# Altium schematic symbol library General.SchLib: 17 symbols
Pins are listed as number, name and electrical type; pins without a type are passive.

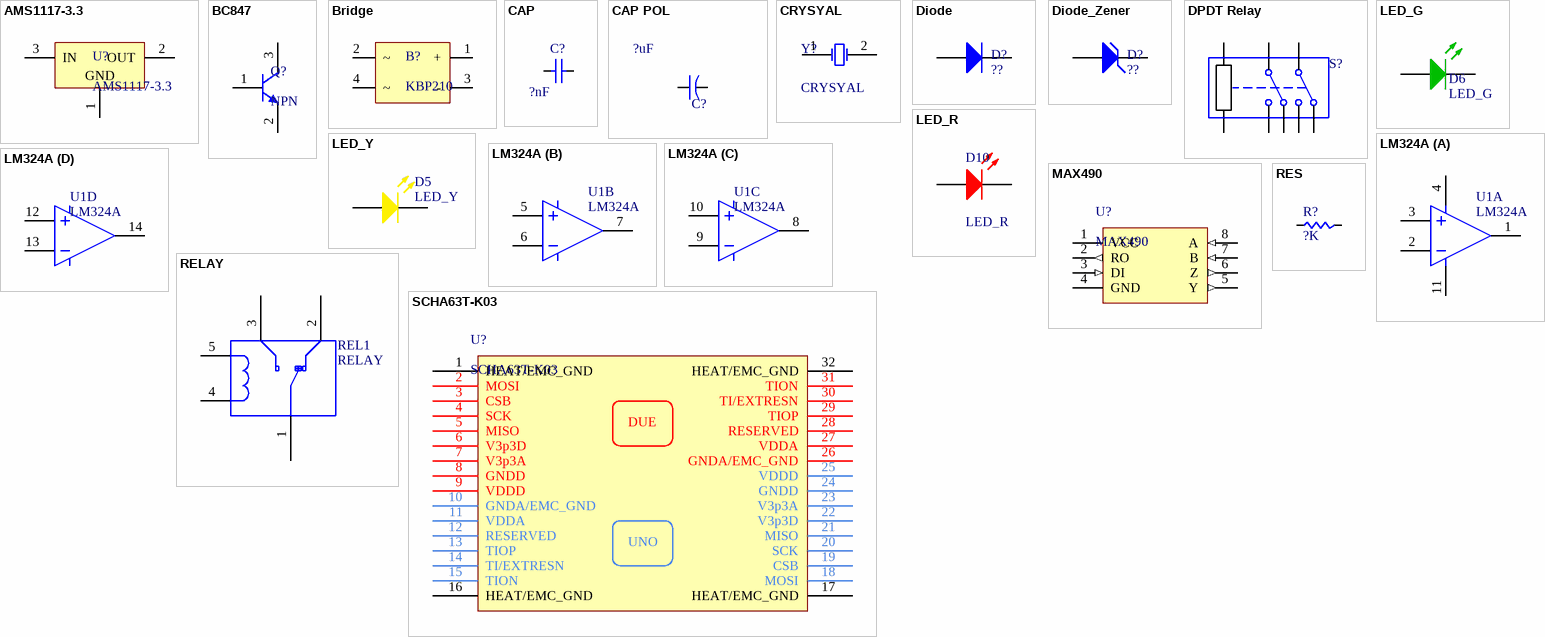
[diagram p0: symbols AMS1117-3.3 to SCHA63T-K03]

## AMS1117-3.3
designator U?
footprint SOT223
pins: 1 GND (power), 2 OUT (power), 3 IN (power)

## BC847
designator Q?, comment NPN
footprint SOT23
pins: 1 B, 2 E, 3 C

## Bridge
designator B?, comment KBP210
footprint DB107
footprint KBP206
footprint MB6S
pins: 1 +, 2 ~, 3 -, 4 ~

## CAP
designator C?, comment ?nF
footprint Ceramic_2.5mm
footprint MKT_9.5mm
footprint MKT_22.5mm
footprint MKT_5MM
footprint MKT_5MM-sleep
footprint MKT_7.5mm
footprint MKT_7.5mm_small
footprint MKT_10.5mm
footprint MKT_15mm
footprint MKT_20.5mm
footprint MKT_23.5mm
footprint POLi_10mm
footprint POLI_17MM
footprint poli_7.5mm
footprint POLI_20MM
footprint C1206
footprint Model Name (Footprint not found)
footprint C0805
pins: 1, 2

## CAP POL
designator C?, comment ?uF
footprint elec_10.5mm_5mm
footprint elec_10.5mm_5mm_R
footprint Elec_4mm_5mm
footprint Elec_5mm_2mm
footprint Elec_6.5MM_2MM
footprint Elec_6.5MM_2MM_R
footprint Elec_8.5MM_3.5MM
footprint Elec_12.5mm_5mm
footprint Elec_16mm_7.5mm
footprint Elec_17mm_7.5mm
footprint Elec_22.5mm_10.5mm
footprint Elec_26mm_10.5mm
footprint Elec_26mm_12mm
footprint Elec_30mm_10.5mm
pins: 1, 2
1 alternate drawing of the same symbol

## CRYSYAL
designator Y?
Crystal Oscillator; Published: 8-Jun-2000; LatestRevisionDate: 17-Jul-2002; LatestRevisionNote: Re-released for DXP Platform.; PackageReference: R38; Publisher: Altium Limited; PackageDescription: Crystal, Thru-Hole; 2 Leads; Body 3.1 x 8.2 mm (Dia.xH)
footprint XTAL
pins: 1 OSC1, 2 OSC2

## Diode
designator D?, comment ??
footprint DO-214
pins: 1 A, 2 K

## Diode_Zener
designator D?, comment ??
footprint DIODE
pins: 1 A, 2 K

## DPDT Relay
designator S?, comment Double-Pole, Double-Throw Relay  (value not drawn)
L_C: 1u; R_C: 100; RON: 1; ROFF: 1e12; ION: 1m; IOFF: 0; SimulationGenericComponent: True
simulation model DPDT_RELAY
pins: 1, 2, 3, 4, 5, 6, 7, 8

## LED_G
designator D6
Typical RED, GREEN, YELLOW, AMBER GaAs LED; Published: 8-Jun-2000; LatestRevisionDate: 17-Jul-2002; LatestRevisionNote: Re-released for DXP Platform.; PackageVersion: Feb-2002; PackageReference: 3.2X1.6X1.1; Publisher: Altium Limited; PackageDescription: SM LED; 2 Flat Leads
footprint LED5mm
pins: 1 A, 2 K

## LED_R
designator D10
Typical INFRARED GaAs LED; Published: 8-Jun-2000; LatestRevisionDate: 08-Jul-2005; LatestRevisionNote: Mech Layer 1 removed.; PackageReference: LED-0; Publisher: Altium Limited; PackageDescription: LED; 2 Leads
footprint LED5mm
pins: 1 A, 2 K

## LED_Y
designator D5
Typical BLUE SiC LED; Published: 8-Jun-2000; LatestRevisionDate: 17-Dec-2003; LatestRevisionNote: PCB Footprint replaced.; DatasheetVersion: 16-Apr-2002; PackageVersion: 16-Apr-2002; PackageReference: 3.5X2.8X1.9; Publisher: Altium Limited; PackageDescription: SM LED; 2 C-Bend Leads; Body 3.5 x 2.8 x 1.9 mm, inc leads (LxWxH typ)
footprint LED5mm
pins: 1 A, 2 K

## LM324A
designator U1
footprint SOIC-14
part A pins: 1 OUT, 2, 3, 4 VCC, 11 GND
part B pins: 5 IN, 6 IN, 7 OUT
part C pins: 8 OUT, 9 IN, 10 IN
part D pins: 12 IN, 13 IN, 14 OUT

## MAX490
designator U?
footprint SOP8
pins: 1 VCC (power), 2 RO (out), 3 DI (in), 4 GND (power), 5 Y (out), 6 Z (out), 7 B (in), 8 A (in)

## RELAY
designator REL1
footprint RELAY-MILON
pins: 1 COM, 2 NC, 3 NO, 4, 5

## RES
designator R?, comment ?K
footprint R_1/2W
footprint R_1/2W - ista
footprint R_1/2W - ista-5mm
footprint R_1/4W
footprint R_1/4W_ST
footprint R_1W
footprint R_2W-ista
footprint R_2W-ista_7mm
footprint R_2W-ista_10mm
footprint R_5W
footprint R_5W_12mm
footprint R_5W_ista
footprint R_5W_ista 2
footprint R_10W
footprint R0603
footprint R0805
footprint R1206
footprint R2512
pins: 1, 2

## SCHA63T-K03
designator U?
Gyroscop & Accelerometer
footprint SCHA63T-K03
pins: 1 HEAT/EMC_GND, 2 MOSI, 3 CSB, 4 SCK, 5 MISO, 6 V3p3D, 7 V3p3A, 8 GNDD, 9 VDDD, 10 GNDA/EMC_GND, 11 VDDA, 12 RESERVED, 13 TIOP, 14 TI/EXTRESN, 15 TION, 16 HEAT/EMC_GND, 17 HEAT/EMC_GND, 18 MOSI, 19 CSB, 20 SCK, 21 MISO, 22 V3p3D, 23 V3p3A, 24 GNDD, 25 VDDD, 26 GNDA/EMC_GND, 27 VDDA, 28 RESERVED, 29 TIOP, 30 TI/EXTRESN, 31 TION, 32 HEAT/EMC_GND
text: DUE; UNO